# Altium footprint library TSM-108-01-L-SV header.PcbLib: 1 footprints
Each footprint in its own frame and in the unit in brackets; x right, y up, seen from the top. Pads: shape width x height; smd on the part's side, far side on the other; paste and mask are expansions set on the pad; w line width, h text height; cw(c..) or ccw(c..) is an arc to the next point about the centre after c.
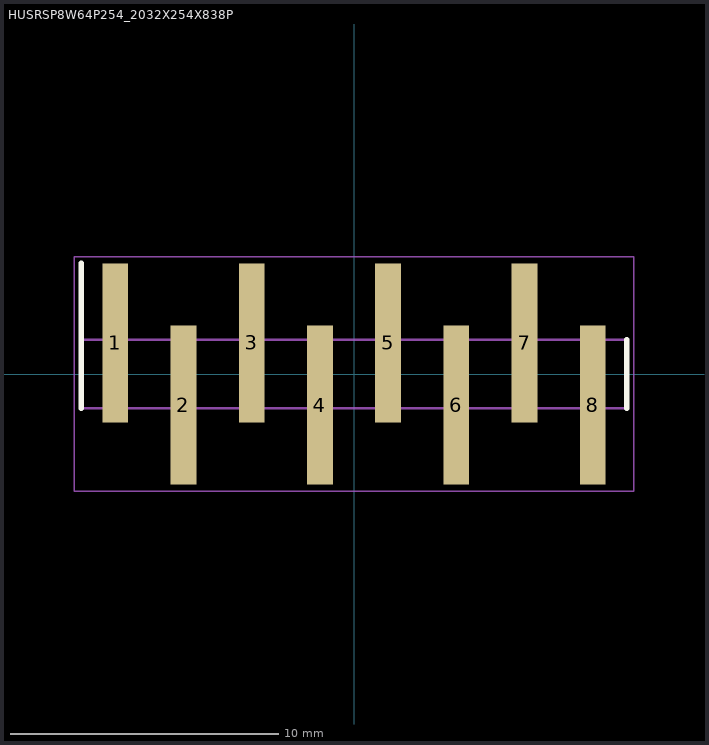
[diagram p0: the footprint, top view; thin cyan lines are the x and y axes]

## HUSRSP8W64P254_2032X254X838P [mm]
pads (8):
  rect 0.96x5.92 smd: 1(-8.89,1.16) 2(-6.35,-1.16) 3(-3.81,1.16) 4(-1.27,-1.16) 5(1.27,1.16) 6(3.81,-1.16) 7(6.35,1.16) 8(8.89,-1.16)
Top Overlay:
  lines w0.2: -10.16,-1.27 -10.16,4.12 ; 10.16,-1.27 10.16,1.27
Mechanical 13:
  lines w0.1: -10.16,-1.27 -10.16,1.27 10.16,1.27 10.16,-1.27 -10.16,-1.27
Mechanical 15:
  lines w0.05: -10.41,-4.37 -10.41,4.37 10.41,4.37 10.41,-4.37 -10.41,-4.37
3D body "TSM-108-01-L-SV.stp": height 9.65, standoff 0, extent -10.16,-2.64 10.16,2.64